# EAGLE library part USB_CONNECTOR (library eLock Connectors)
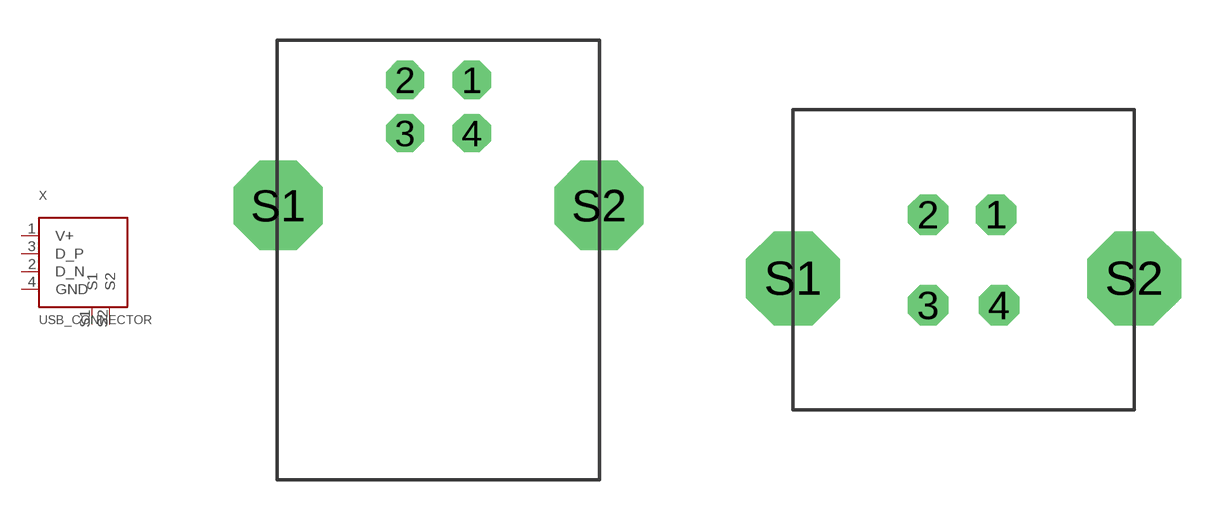
[diagram p0: symbol with the pads of USB-B1HSW6_HORIZ; footprints USB-B1HSW6_HORIZ, M701-330442_VERT]

Designator prefix X

## USB_CONNECTORHORIZONTAL  [USB-B1HSW6_HORIZ]
1  V+  pwr
2  D_N
3  D_P
4  GND  pwr
S1  S1  pwr
S2  S2  pwr

## USB_CONNECTORVERTICAL  [M701-330442_VERT]
Pads as for USB-B1HSW6_HORIZ

## Footprint USB-B1HSW6_HORIZ (pad centres in mm)
drill 0.92 octagon: 1 1.25,1; 2 -1.25,1; 3 -1.25,-1; 4 1.25,-1
drill 2.33 octagon: S1 -6.02,-3.71; S2 6.02,-3.71

## Footprint M701-330442_VERT (pad centres in mm)
drill 0.92 octagon: 1 1.15,1.6; 2 -1.25,1.6; 3 -1.25,-1.6; 4 1.25,-1.6
drill 2.3 octagon: S1 -6.02,-0.65; S2 6.02,-0.65